# Altium integrated library UVR1H010MDD.IntLib: 1 symbol
Pins are listed as number, name and electrical type; pins without a type are passive.

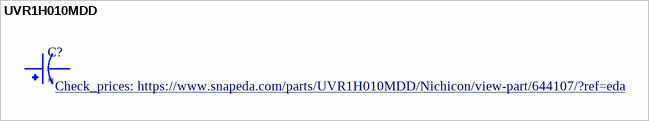
[diagram p0: symbol UVR1H010MDD]

## UVR1H010MDD
designator C?
1ÂµF 50V Aluminum Electrolytic Capacitors Radial, Can 2000 Hrs @ 85Â°C; MF: Nichicon; MP: UVR1H010MDD; Package: Radial Nichicon; Price: None; SnapEDA_Link: https://www.snapeda.com/parts/UVR1H010MDD/Nichicon/view-part/644107/?ref=snap; Value: *; DigiKey-Purchase-URL: https://snapeda.com/shop?store=DigiKey&id=644107; Arrow_Electronics-Purchase-URL: https://snapeda.com/shop?store=Arrow+Electronics&id=644107; Availability: Good; Check_prices: https://www.snapeda.com/parts/UVR1H010MDD/Nichicon/view-part/644107/?ref=eda
footprint CAPPRD200W50D550H1250
pins: 1, 2